# EAGLE library part A68-A31 (library 000001)
SLIDING SWITCH Siemens, distributor Buerklin, 11G766
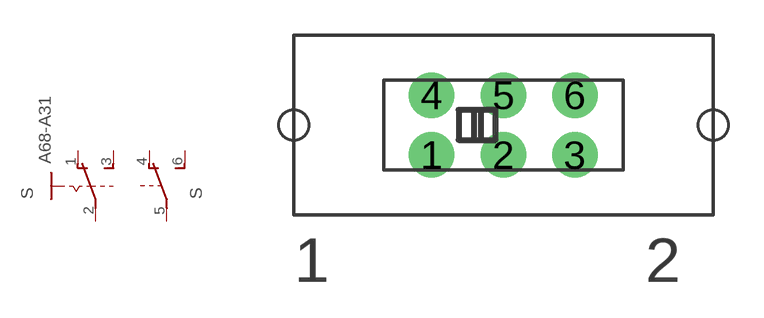
[diagram p28: symbol with the pads of A68-A31; footprint A68-A31]

Designator prefix S; gates B=U2 A=SIS-

## A68-A31  [A68-A31]
1  A:O  pas
2  A:P  pas
3  A:S  pas
4  B:O  pas
5  B:P  pas
6  B:S  pas

## Footprint A68-A31 (pad centres in mm)
SLIDING SWITCH Siemens, distributor Buerklin, 11G766
drill 0.5 pad 1.93 round: 1 -3.048,-1.27; 2 0,-1.27; 3 3.023,-1.27; 4 -3.048,1.27; 5 0,1.27; 6 3.023,1.27